# EAGLE library part ATSAMR21E (library zigtherm)
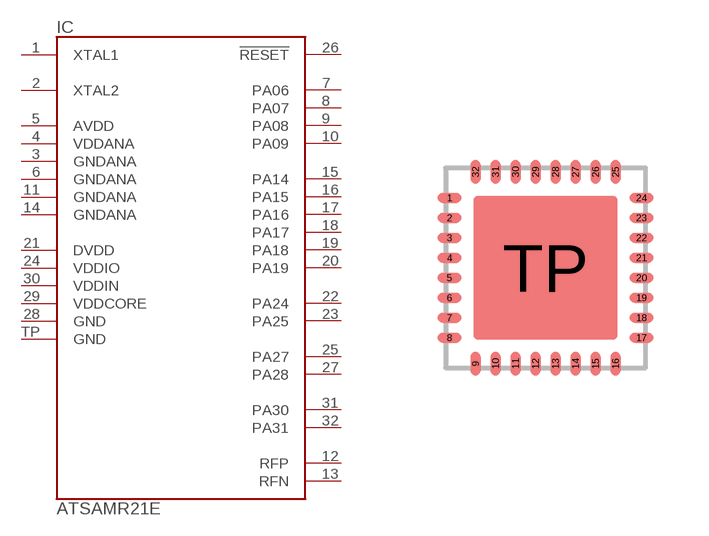
[diagram p0: symbol with the pads of QFN32; footprint QFN32]

Designator prefix IC

## ATSAMR21E  [QFN32]
1  XTAL1  pas
2  XTAL2  pas
3  GNDANA  pas
4  VDDANA  pas
5  AVDD  pas
6  GNDANA  pas
7  PA06
8  PA07
9  PA08
10  PA09
11  GNDANA  pas
12  RFP  pas
13  RFN  pas
14  GNDANA  pas
15  PA14
16  PA15
17  PA16
18  PA17
19  PA18
20  PA19
21  DVDD  pas
22  PA24
23  PA25
24  VDDIO  pas
25  PA27
26  !RESET  in
27  PA28
28  GND  pas
29  VDDCORE  pas
30  VDDIN  pas
31  PA30
32  PA31
TP  GND  pas

## Footprint QFN32 (pad centres in mm)
smd 0.6 x 0.25: 1 -2.4,1.75; 2 -2.4,1.25; 3 -2.4,0.75; 4 -2.4,0.25; 5 -2.4,-0.25; 6 -2.4,-0.75; 7 -2.4,-1.25; 8 -2.4,-1.75; 17 2.4,-1.75; 18 2.4,-1.25; 19 2.4,-0.75; 20 2.4,-0.25; 21 2.4,0.25; 22 2.4,0.75; 23 2.4,1.25; 24 2.4,1.75
smd 0.25 x 0.6: 9 -1.75,-2.4; 10 -1.25,-2.4; 11 -0.75,-2.4; 12 -0.25,-2.4; 13 0.25,-2.4; 14 0.75,-2.4; 15 1.25,-2.4; 16 1.75,-2.4; 25 1.75,2.4; 26 1.25,2.4; 27 0.75,2.4; 28 0.25,2.4; 29 -0.25,2.4; 30 -0.75,2.4; 31 -1.25,2.4; 32 -1.75,2.4
smd 3.6 x 3.6: TP 0,0